# EAGLE library part 1-1825006-7 (library Switches)
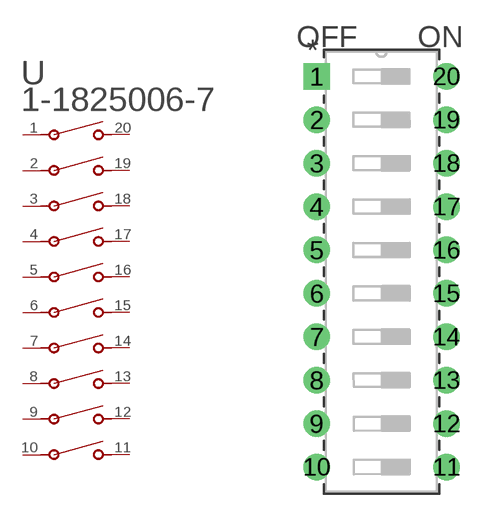
[diagram p29: symbol with the pads of SWDIP20_299X110P100; footprint SWDIP20_299X110P100]

Designator prefix U

## 1-1825006-7 (BUILT_BY: EMA_UL_Team; CATEGORY: DIP & SIP Switches; COPYRIGHT: Copyright (C) 2016 Accelerated Designs. All rights reserved; DESCRIPTION: GDS1004=DIP SW,SLIDE,THRU/HL; MANUFACTURER_PART_NUMBER: 1-1825006-7; PART_STATUS: active; SERIES: Alcoswitch DIP,Alcoswitch DIP GDS; VENDOR: TE Connectivity)  [SWDIP20_299X110P100]
1  1  pas
2  2  pas
3  3  pas
4  4  pas
5  5  pas
6  6  pas
7  7  pas
8  8  pas
9  9  pas
10  10  pas
11  11  pas
12  12  pas
13  13  pas
14  14  pas
15  15  pas
16  16  pas
17  17  pas
18  18  pas
19  19  pas
20  20  pas

## Footprint SWDIP20_299X110P100 (pad centres in mm)
drill 0.838 pad 1.549 square: 1 -7.595,22.86
drill 0.838 pad 1.549: 2 -7.595,20.32; 3 -7.595,17.78; 4 -7.595,15.24; 5 -7.595,12.7; 6 -7.595,10.16; 7 -7.595,7.62; 8 -7.595,5.08; 9 -7.595,2.54; 10 -7.595,0; 11 0,0; 12 0,2.54; 13 0,5.08; 14 0,7.62; 15 0,10.16; 16 0,12.7; 17 0,15.24; 18 0,17.78; 19 0,20.32; 20 0,22.86